# EAGLE library part AVRISPMK2 (library smd_other)
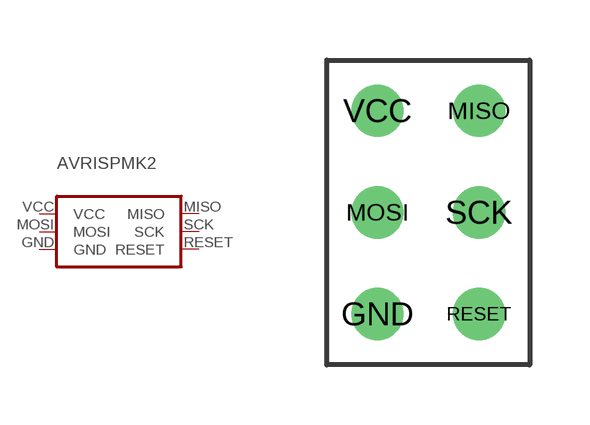
[diagram p2: symbol with the pads of AVRISPMK2; footprint AVRISPMK2]

Designator prefix -

## AVRISPMK2  [AVRISPMK2]
GND  GND
MISO  MISO
MOSI  MOSI
RESET  RESET
SCK  SCK
VCC  VCC

## Footprint AVRISPMK2 (pad centres in mm)
drill 0.8: GND 1.27,1.27; MISO 3.81,6.35; MOSI 1.27,3.81; RESET 3.81,1.27; SCK 3.81,3.81; VCC 1.27,6.35